# Altium schematic symbol library ic-comparator.SchLib: 4 symbols
Pins are listed as number, name and electrical type; pins without a type are passive.

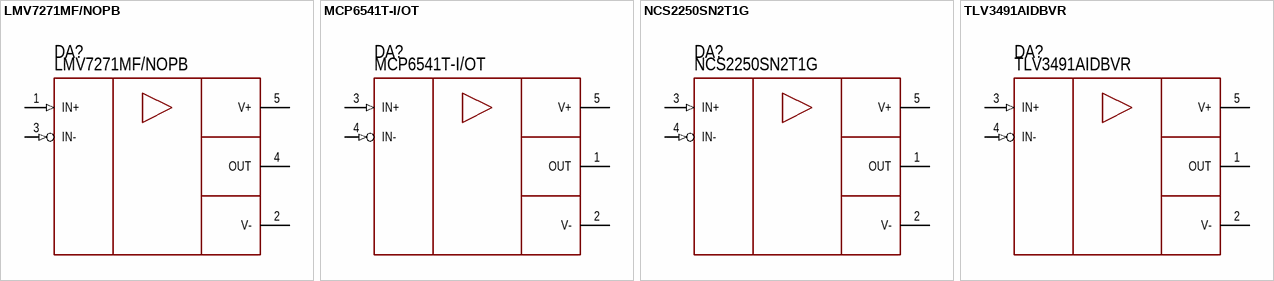
[diagram p0: symbols LMV7271MF/NOPB to TLV3491AIDBVR]

## LMV7271MF/NOPB
designator DA?  PartNumber: LMV7271MF/NOPB
Comparator; Manufacturer: Texas Instruments; ValueManufacturerPartNumber: IC comparator, Rail-to-Rail, 1.8...5.5V, -40...+85°C, SOT23-5; Supply: 1.8...5.5V; OutputType: Rail-to-Rail; HelpURL: https://www.digikey.com/product-detail/en/texas-instruments/LMV7271MF-NOPB/LMV7271MF-NOPBCT-ND/566721; Package: SOT23-5; ComponentType: IC comparator; Temperature: -40...+85°C
footprint SOT23-5 (pitch 0.95 mm)
pins: 1 IN+ (in), 2 V- (power), 3 IN- (in), 4 OUT (power), 5 V+ (power)

## MCP6541T-I/OT
designator DA?  PartNumber: MCP6541T-I/OT
Comparator; Manufacturer: Microchip Technology; ValueManufacturerPartNumber: IC comparator, Rail-to-Rail, 1.6...5.5V, -40...+85°C, SOT23-5; Supply: 1.6...5.5V; OutputType: Rail-to-Rail; HelpURL: https://www.digikey.com/product-detail/en/microchip-technology/MCP6541T-I-OT/MCP6541T-I-OTCT-ND/3622387; Package: SOT23-5; ComponentType: IC comparator; Temperature: -40...+85°C
footprint SOT23-5 (pitch 0.95 mm)
pins: 1 OUT (power), 2 V- (power), 3 IN+ (in), 4 IN- (in), 5 V+ (power)

## NCS2250SN2T1G
designator DA?  PartNumber: NCS2250SN2T1G
Comparator; Manufacturer: ON Semiconductor; ValueManufacturerPartNumber: IC comparator, Rail-to-Rail, 1.6...5.5V, -40...+125°C, SOT23-5; Supply: 1.6...5.5V; OutputType: Rail-to-Rail; HelpURL: https://www.digikey.com/product-detail/en/on-semiconductor/NCS2250SN2T1G/NCS2250SN2T1GOSCT-ND/9749438; Package: SOT23-5; ComponentType: IC comparator; Temperature: -40...+125°C
footprint SOT23-5 (pitch 0.95 mm)
pins: 1 OUT (power), 2 V- (power), 3 IN+ (in), 4 IN- (in), 5 V+ (power)

## TLV3491AIDBVR
designator DA?  PartNumber: TLV3491AIDBVR
Comparator; Manufacturer: Texas Instruments; ValueManufacturerPartNumber: IC comparator, Rail-to-Rail, 1.6...5.5V, -40...+125°C, SOT23-5; Supply: 1.6...5.5V; OutputType: Rail-to-Rail; HelpURL: https://www.digikey.com/product-detail/en/texas-instruments/TLV3491AIDBVR/296-26825-1-ND/2255187; Package: SOT23-5; ComponentType: IC comparator; Temperature: -40...+125°C
footprint SOT23-5 (pitch 0.95 mm)
pins: 1 OUT (power), 2 V- (power), 3 IN+ (in), 4 IN- (in), 5 V+ (power)